# Altium footprint library AD5292BRUZ-50-RL7.PcbLib: 3 footprints
Each footprint in its own frame and in the unit in brackets; x right, y up, seen from the top. Pads: shape width x height; smd on the part's side, far side on the other; paste and mask are expansions set on the pad; w line width, h text height; cw(c..) or ccw(c..) is an arc to the next point about the centre after c.
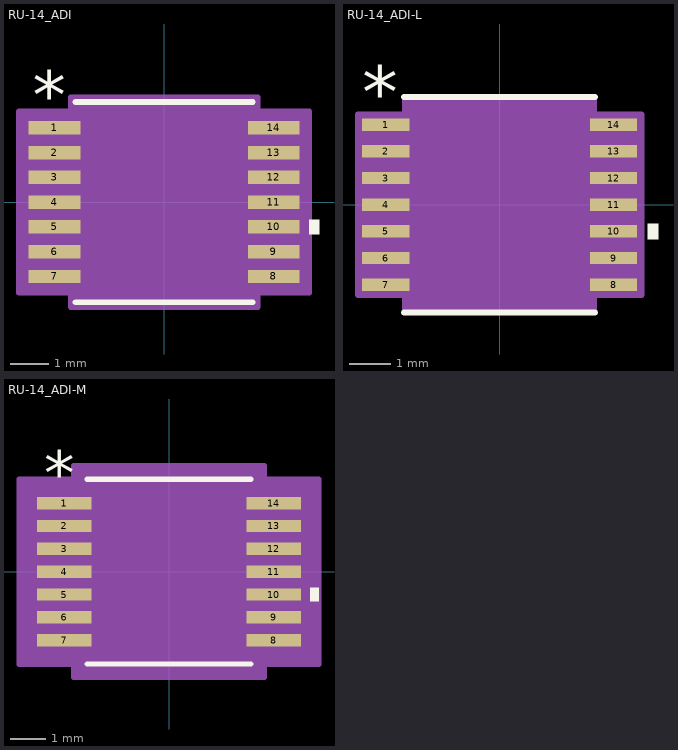
[diagram p0: the footprints below, top view; thin cyan lines are the x and y axes]

## RU-14_ADI [mm]
pads (14):
  rect 1.356x0.351 smd paste+0 mask+0: 1(-2.878,1.95) 2(-2.878,1.3) 3(-2.878,0.65) 4(-2.878,0) 5(-2.878,-0.65) 6(-2.878,-1.3) 7(-2.878,-1.95) 8(2.878,-1.95) 9(2.878,-1.3) 10(2.878,-0.65) 11(2.878,0) 12(2.878,0.65) 13(2.878,1.3) 14(2.878,1.95)
Top Overlay:
  region: 3.81,-0.459 4.064,-0.459 4.064,-0.84 3.81,-0.84
  lines w0.152: -2.327,-2.627 2.327,-2.627 ; -2.327,2.627 2.327,2.627
  text "*" at -3.449,2.174 h1.27
  text ".Designator" at -3.492,-0.635 h1.27
Mechanical 13:
  lines w0.025: -0.305,2.5 ccw(c0,2.5) 0.305,2.5 ; -3.2,-2.1 -2.2,-2.1 -2.2,-1.8 -3.2,-1.8 -3.2,-2.1 ; -3.2,-1.45 -2.2,-1.45 -2.2,-1.15 -3.2,-1.15 -3.2,-1.45 ; -3.2,-0.8 -2.2,-0.8 -2.2,-0.5 -3.2,-0.5 -3.2,-0.8 ; -3.2,-0.15 -2.2,-0.15 -2.2,0.15 -3.2,0.15 -3.2,-0.15 ; -3.2,0.5 -2.2,0.5 -2.2,0.8 -3.2,0.8 -3.2,0.5 ; -3.2,1.15 -2.2,1.15 -2.2,1.45 -3.2,1.45 -3.2,1.15 ; -3.2,1.8 -2.2,1.8 -2.2,2.1 -3.2,2.1 -3.2,1.8 ; -2.2,-2.5 -2.2,2.5 2.2,2.5 2.2,-2.5 -2.2,-2.5 ; 2.2,-2.1 3.2,-2.1 3.2,-1.8 2.2,-1.8 2.2,-2.1 ; 2.2,-1.45 3.2,-1.45 3.2,-1.15 2.2,-1.15 2.2,-1.45 ; 2.2,-0.8 3.2,-0.8 3.2,-0.5 2.2,-0.5 2.2,-0.8 ; 2.2,-0.15 3.2,-0.15 3.2,0.15 2.2,0.15 2.2,-0.15 ; 2.2,0.5 3.2,0.5 3.2,0.8 2.2,0.8 2.2,0.5 ; 2.2,1.15 3.2,1.15 3.2,1.45 2.2,1.45 2.2,1.15 ; 2.2,1.8 3.2,1.8 3.2,2.1 2.2,2.1 2.2,1.8
  text ".Designator" at -3.492,-0.635 h1.27
  text "*" at -2.137,1.154 h1.27
Mechanical 15:
  region: -2.454,-2.379 -3.81,-2.379 -3.81,2.379 -2.454,2.379 -2.454,2.754 2.454,2.754 2.454,2.379 3.81,2.379 3.81,-2.379 2.454,-2.379 2.454,-2.754 -2.454,-2.754
  lines w0.152: -3.81,-2.379 -2.454,-2.379 -2.454,-2.754 2.454,-2.754 2.454,-2.379 3.81,-2.379 3.81,2.379 2.454,2.379 2.454,2.754 -2.454,2.754 -2.454,2.379 -3.81,2.379 -3.81,-2.379
3D body "RU-14_ADI.step": height 1.2, standoff 0, extent -3.2,-2.5 3.2,2.5
3D body "RU-14_ADI.step": height 1.2, standoff 0, extent -3.2,-2.5 3.2,2.5

## RU-14_ADI-L [mm]
pads (14):
  rect 1.152x0.3 smd paste+0 mask+0: 1(-2.776,1.95) 2(-2.776,1.3) 3(-2.776,0.65) 4(-2.776,0) 5(-2.776,-0.65) 6(-2.776,-1.3) 7(-2.776,-1.95) 8(2.776,-1.95) 9(2.776,-1.3) 10(2.776,-0.65) 11(2.776,0) 12(2.776,0.65) 13(2.776,1.3) 14(2.776,1.95)
Top Overlay:
  region: 3.606,-0.459 3.86,-0.459 3.86,-0.84 3.606,-0.84
  lines w0.152: -2.327,-2.627 2.327,-2.627 ; -2.327,2.627 2.327,2.627
  text ".Designator" at -3.492,-0.635 h1.27
  text "*" at -3.348,2.123 h1.27
Mechanical 13:
  lines w0.025: -0.305,2.5 ccw(c0,2.5) 0.305,2.5 ; -3.2,-2.1 -3.2,-1.8 -2.2,-1.8 -2.2,-2.1 -3.2,-2.1 ; -3.2,-1.45 -3.2,-1.15 -2.2,-1.15 -2.2,-1.45 -3.2,-1.45 ; -3.2,-0.8 -3.2,-0.5 -2.2,-0.5 -2.2,-0.8 -3.2,-0.8 ; -3.2,-0.15 -3.2,0.15 -2.2,0.15 -2.2,-0.15 -3.2,-0.15 ; -3.2,0.5 -3.2,0.8 -2.2,0.8 -2.2,0.5 -3.2,0.5 ; -3.2,1.15 -3.2,1.45 -2.2,1.45 -2.2,1.15 -3.2,1.15 ; -3.2,1.8 -3.2,2.1 -2.2,2.1 -2.2,1.8 -3.2,1.8 ; -2.2,-2.5 2.2,-2.5 2.2,2.5 -2.2,2.5 -2.2,-2.5 ; 2.2,-2.1 2.2,-1.8 3.2,-1.8 3.2,-2.1 2.2,-2.1 ; 2.2,-1.45 2.2,-1.15 3.2,-1.15 3.2,-1.45 2.2,-1.45 ; 2.2,-0.8 2.2,-0.5 3.2,-0.5 3.2,-0.8 2.2,-0.8 ; 2.2,-0.15 2.2,0.15 3.2,0.15 3.2,-0.15 2.2,-0.15 ; 2.2,0.5 2.2,0.8 3.2,0.8 3.2,0.5 2.2,0.5 ; 2.2,1.15 2.2,1.45 3.2,1.45 3.2,1.15 2.2,1.15 ; 2.2,1.8 2.2,2.1 3.2,2.1 3.2,1.8 2.2,1.8
  text "*" at -2.137,1.154 h1.27
  text ".Designator" at -3.492,-0.635 h1.27
Mechanical 15:
  region: -2.302,-2.202 -3.454,-2.202 -3.454,2.202 -2.302,2.202 -2.302,2.602 2.302,2.602 2.302,2.202 3.454,2.202 3.454,-2.202 2.302,-2.202 2.302,-2.602 -2.302,-2.602
  lines w0.152: -3.454,-2.202 -3.454,2.202 -2.302,2.202 -2.302,2.602 2.302,2.602 2.302,2.202 3.454,2.202 3.454,-2.202 2.302,-2.202 2.302,-2.602 -2.302,-2.602 -2.302,-2.202 -3.454,-2.202
3D body "RU-14_ADI.step": height 1.2, standoff 0, extent -3.2,-2.5 3.2,2.5

## RU-14_ADI-M [mm]
pads (14):
  rect 1.559x0.351 smd paste+0 mask+0: 1(-2.979,1.95) 2(-2.979,1.3) 3(-2.979,0.65) 4(-2.979,0) 5(-2.979,-0.65) 6(-2.979,-1.3) 7(-2.979,-1.95) 8(2.979,-1.95) 9(2.979,-1.3) 10(2.979,-0.65) 11(2.979,0) 12(2.979,0.65) 13(2.979,1.3) 14(2.979,1.95)
Top Overlay:
  region: 4.013,-0.459 4.267,-0.459 4.267,-0.84 4.013,-0.84
  lines w0.152: -2.327,-2.627 2.327,-2.627 ; -2.327,2.627 2.327,2.627
  text ".Designator" at -3.492,-0.635 h1.27
  text "*" at -3.551,2.174 h1.27
Mechanical 13:
  lines w0.025: -0.305,2.5 ccw(c0,2.5) 0.305,2.5 ; -3.2,-2.1 -3.2,-1.8 -2.2,-1.8 -2.2,-2.1 -3.2,-2.1 ; -3.2,-1.45 -3.2,-1.15 -2.2,-1.15 -2.2,-1.45 -3.2,-1.45 ; -3.2,-0.8 -3.2,-0.5 -2.2,-0.5 -2.2,-0.8 -3.2,-0.8 ; -3.2,-0.15 -3.2,0.15 -2.2,0.15 -2.2,-0.15 -3.2,-0.15 ; -3.2,0.5 -3.2,0.8 -2.2,0.8 -2.2,0.5 -3.2,0.5 ; -3.2,1.15 -3.2,1.45 -2.2,1.45 -2.2,1.15 -3.2,1.15 ; -3.2,1.8 -3.2,2.1 -2.2,2.1 -2.2,1.8 -3.2,1.8 ; -2.2,-2.5 2.2,-2.5 2.2,2.5 -2.2,2.5 -2.2,-2.5 ; 2.2,-2.1 2.2,-1.8 3.2,-1.8 3.2,-2.1 2.2,-2.1 ; 2.2,-1.45 2.2,-1.15 3.2,-1.15 3.2,-1.45 2.2,-1.45 ; 2.2,-0.8 2.2,-0.5 3.2,-0.5 3.2,-0.8 2.2,-0.8 ; 2.2,-0.15 2.2,0.15 3.2,0.15 3.2,-0.15 2.2,-0.15 ; 2.2,0.5 2.2,0.8 3.2,0.8 3.2,0.5 2.2,0.5 ; 2.2,1.15 2.2,1.45 3.2,1.45 3.2,1.15 2.2,1.15 ; 2.2,1.8 2.2,2.1 3.2,2.1 3.2,1.8 2.2,1.8
  text "*" at -2.137,1.154 h1.27
  text ".Designator" at -3.492,-0.635 h1.27
Mechanical 15:
  region: -2.708,-2.633 -4.267,-2.633 -4.267,2.633 -2.708,2.633 -2.708,3.008 2.708,3.008 2.708,2.633 4.267,2.633 4.267,-2.633 2.708,-2.633 2.708,-3.008 -2.708,-3.008
  lines w0.152: -4.267,-2.633 -4.267,2.633 -2.708,2.633 -2.708,3.008 2.708,3.008 2.708,2.633 4.267,2.633 4.267,-2.633 2.708,-2.633 2.708,-3.008 -2.708,-3.008 -2.708,-2.633 -4.267,-2.633
3D body "RU-14_ADI.step": height 1.2, standoff 0, extent -3.2,-2.5 3.2,2.5